# EAGLE library part L6202 (library IC)
ST Microelectronics DMOS full bridge driver
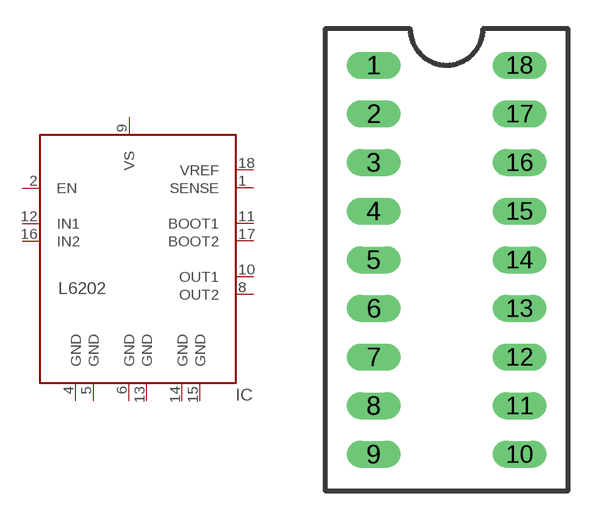
[diagram p42: symbol with the pads of DIP-18; footprint DIP-18]

Designator prefix IC

## L6202  [DIP-18]
1  SENSE
2  EN
4  GND
5  GND
6  GND
8  OUT2
9  VS  pwr
10  OUT1
11  BOOT1
12  IN1
13  GND
14  GND
15  GND
16  IN2
17  BOOT2
18  VREF

## Footprint DIP-18 (pad centres in mm)
drill 0.889 long: 1 -3.81,10.16; 2 -3.81,7.62; 3 -3.81,5.08; 4 -3.81,2.54; 5 -3.81,0; 6 -3.81,-2.54; 7 -3.81,-5.08; 8 -3.81,-7.62; 9 -3.81,-10.16; 10 3.81,-10.16; 11 3.81,-7.62; 12 3.81,-5.08; 13 3.81,-2.54; 14 3.81,0; 15 3.81,2.54; 16 3.81,5.08; 17 3.81,7.62; 18 3.81,10.16